# EAGLE library part FH12A-10S-0.5SH (library CON-Hirose-AON)
FFC connector 10pin 0.5mm contacts TOP, numbering of pin is not defined and must be selected
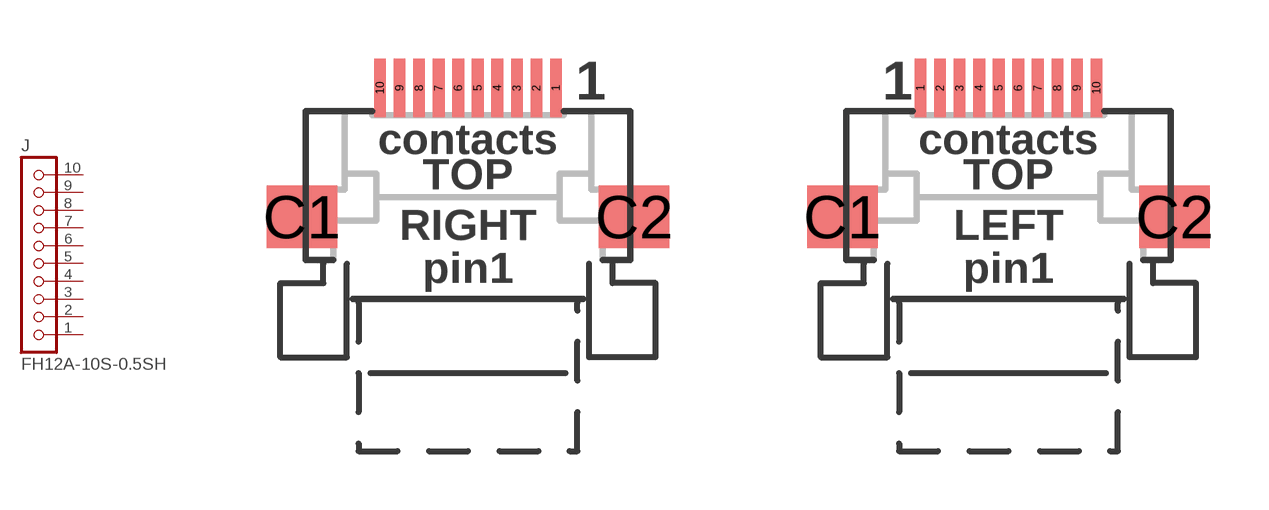
[diagram p6: symbol with the pads of FH12A-10S-05SH-PIN1RIGHT; footprints FH12A-10S-05SH-PIN1RIGHT, FH12A-10S-05SH-PIN1LEFT]

Designator prefix J

## FH12A-10S-0.5SH/1.RIGHT  [FH12A-10S-05SH-PIN1RIGHT]
1  1  pas
2  2  pas
3  3  pas
4  4  pas
5  5  pas
6  6  pas
7  7  pas
8  8  pas
9  9  pas
10  10  pas

## FH12A-10S-0.5SH/1.LEFT  [FH12A-10S-05SH-PIN1LEFT]
Pads as for FH12A-10S-05SH-PIN1RIGHT

## Footprint FH12A-10S-05SH-PIN1RIGHT (pad centres in mm)
smd 0.3 x 1.5: 1 2.25,2.8; 2 1.75,2.8; 3 1.25,2.8; 4 0.75,2.8; 5 0.25,2.8; 6 -0.25,2.8; 7 -0.75,2.8; 8 -1.25,2.8; 9 -1.75,2.8; 10 -2.25,2.8
smd 1.8 x 1.6: C1 -4.25,-0.5; C2 4.25,-0.5

## Footprint FH12A-10S-05SH-PIN1LEFT (pad centres in mm)
smd 0.3 x 1.5: 1 -2.25,2.8; 2 -1.75,2.8; 3 -1.25,2.8; 4 -0.75,2.8; 5 -0.25,2.8; 6 0.25,2.8; 7 0.75,2.8; 8 1.25,2.8; 9 1.75,2.8; 10 2.25,2.8
smd 1.8 x 1.6: C1 -4.25,-0.5; C2 4.25,-0.5